# EAGLE library part OSRAM-LTRB-GFSF (library m_opto)
Enhanced optical Power LED (ThinFilm / ThinGaN) http://www.osram-os.com/Graphics/XPic9/00134830_0.pdf
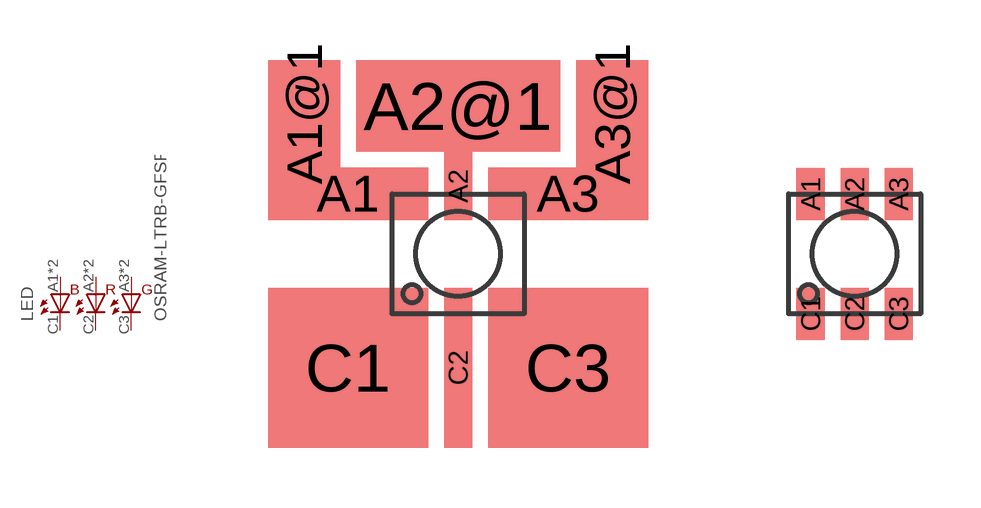
[diagram p7: symbol with the pads of PLCC-6; footprints PLCC-6, PLCC-6-SMALLPAD]

Designator prefix LED

## OSRAM-LTRB-GFSF (MANUF: Osram; PARTNUM: LTRB GFSF-ABCB-QKYO)  [PLCC-6]
A1  BA  pas
A1@1  BA  pas
A2  RA  pas
A2@1  RA  pas
A3  GA  pas
A3@1  GA  pas
C1  BC  pas
C2  RC  pas
C3  GC  pas

## OSRAM-LTRB-GFSFSMALLPAD (MANUF: Osram; PARTNUM: LTRB GFSF-ABCB-QKYO)  [PLCC-6-SMALLPAD]
A1  BA  pas
A2  RA  pas
A3  GA  pas
C1  BC  pas
C2  RC  pas
C3  GC  pas

## Footprint PLCC-6 (pad centres in mm)
smd 4 x 1.3: A1 -2.75,1.5; A3 2.75,1.5
smd 1.8 x 2.7: A1@1 -3.85,3.5; A3@1 3.85,3.5
smd 0.7 x 1.7: A2 0,1.7
smd 5.1 x 2.3: A2@1 0,3.7
smd 4 x 4: C1 -2.75,-2.85; C3 2.75,-2.85
smd 0.7 x 4: C2 0,-2.85

## Footprint PLCC-6-SMALLPAD (pad centres in mm)
smd 0.7 x 1.3: A1 -1.1,1.5; A2 0,1.5; A3 1.1,1.5; C1 -1.1,-1.5; C2 0,-1.5; C3 1.1,-1.5